# EAGLE library part CONN_HDMI_A (library GPLIB_CONN)
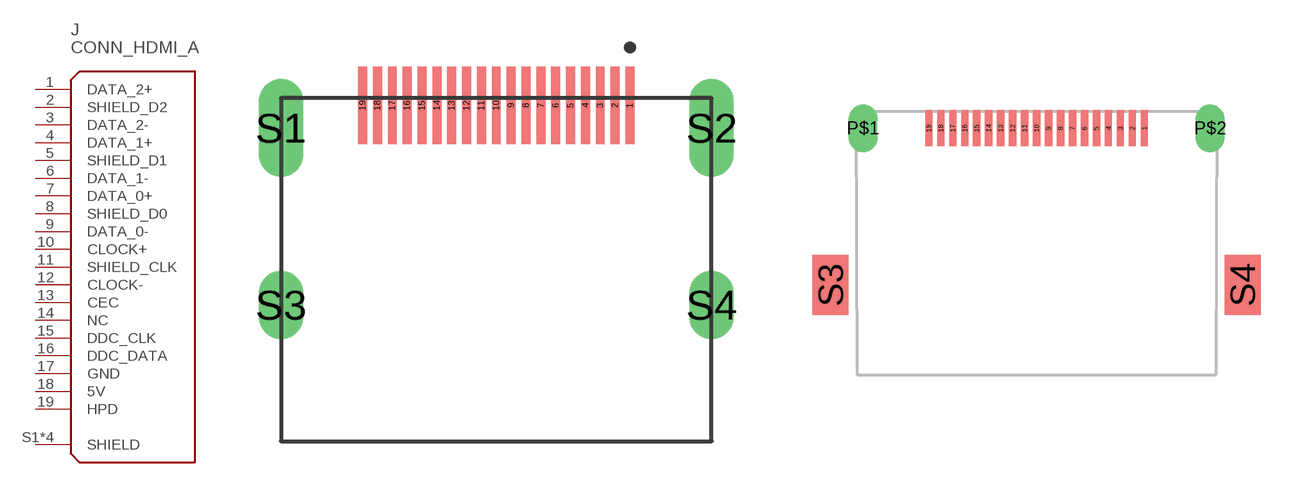
[diagram p24: symbol with the pads of CONN_HDMI_A_SMT_RA; footprints CONN_HDMI_A_SMT_RA, CONN_HDMI_A_SMT_RA_RECESSED]

Designator prefix J

## CONN_HDMI_A_HDMI-216  [CONN_HDMI_A_SMT_RA]
1  DATA_2+  pas
2  SHIELD_D2  pas
3  DATA_2-  pas
4  DATA_1+  pas
5  SHIELD_D1  pas
6  DATA_1-  pas
7  DATA_0+  pas
8  SHIELD_D0  pas
9  DATA_0-  pas
10  CLOCK+  pas
11  SHIELD_CLK  pas
12  CLOCK-  pas
13  CEC  pas
14  NC  pas
15  DDC_CLK  pas
16  DDC_DATA  pas
17  GND  pas
18  5V  pas
19  HPD  pas
S1  SHIELD  pas
S2  SHIELD  pas
S3  SHIELD  pas
S4  SHIELD  pas

## CONN_HDMI_A_HC-HDMI0019T-3  [CONN_HDMI_A_SMT_RA_RECESSED]
1  DATA_2+  pas
2  SHIELD_D2  pas
3  DATA_2-  pas
4  DATA_1+  pas
5  SHIELD_D1  pas
6  DATA_1-  pas
7  DATA_0+  pas
8  SHIELD_D0  pas
9  DATA_0-  pas
10  CLOCK+  pas
11  SHIELD_CLK  pas
12  CLOCK-  pas
13  CEC  pas
14  NC  pas
15  DDC_CLK  pas
16  DDC_DATA  pas
17  GND  pas
18  5V  pas
19  HPD  pas
P$1  SHIELD  pas
P$2  SHIELD  pas
S3  SHIELD  pas
S4  SHIELD  pas

## CONN_HDMI_A_MALE_TH_ST_920-867A2021Y10100  [CONN_HDMI_A_MALE_TH_ST]
1  DATA_2+  pas
2  SHIELD_D2  pas
3  DATA_2-  pas
4  DATA_1+  pas
5  SHIELD_D1  pas
6  DATA_1-  pas
7  DATA_0+  pas
8  SHIELD_D0  pas
9  DATA_0-  pas
10  CLOCK+  pas
11  SHIELD_CLK  pas
12  CLOCK-  pas
13  CEC  pas
14  NC  pas
15  DDC_CLK  pas
16  DDC_DATA  pas
17  GND  pas
18  5V  pas
19  HPD  pas
S1  SHIELD  pas
S2  SHIELD  pas

## CONN_HDMI_A_MALE_TH_ST_LONG_PAD_920-867A2021Y10100  [CONN_HDMI_A_MALE_TH_ST_SPECIAL]
Pads as for CONN_HDMI_A_MALE_TH_ST

## CONN_HDMI_A_HC-HDMI0019T-4  [CONN_HDMI_A_SMT_RA_HC-HDMI0019T-4]
1  DATA_2+  pas
2  SHIELD_D2  pas
3  DATA_2-  pas
4  DATA_1+  pas
5  SHIELD_D1  pas
6  DATA_1-  pas
7  DATA_0+  pas
8  SHIELD_D0  pas
9  DATA_0-  pas
10  CLOCK+  pas
11  SHIELD_CLK  pas
12  CLOCK-  pas
13  CEC  pas
14  NC  pas
15  DDC_CLK  pas
16  DDC_DATA  pas
17  GND  pas
18  5V  pas
19  HPD  pas
20  SHIELD  pas
21  SHIELD  pas
22  SHIELD  pas
23  SHIELD  pas

## Footprint CONN_HDMI_A_SMT_RA (pad centres in mm)
smd 0.3 x 2.6: 1 4.5,6.72; 2 4,6.72; 3 3.5,6.72; 4 3,6.72; 5 2.5,6.72; 6 2,6.72; 7 1.5,6.72; 8 1,6.72; 9 0.5,6.72; 10 0,6.72; 11 -0.5,6.72; 12 -1,6.72; 13 -1.5,6.72; 14 -2,6.72; 15 -2.5,6.72; 16 -3,6.72; 17 -3.5,6.72; 18 -4,6.72; 19 -4.5,6.72
drill 0.9 pad 1.5 slot 2.7 rotated 90: S1 -7.25,5.96; S2 7.25,5.96
drill 0.9 pad 1.5 slot 1.7 rotated 90: S3 -7.25,0; S4 7.25,0

## Footprint CONN_HDMI_A_SMT_RA_RECESSED (pad centres in mm)
smd 0.3 x 1.5: 1 4.5,10.3; 2 4,10.3; 3 3.5,10.3; 4 3,10.3; 5 2.5,10.3; 6 2,10.3; 7 1.5,10.3; 8 1,10.3; 9 0.5,10.3; 10 0,10.3; 11 -0.5,10.3; 12 -1,10.3; 13 -1.5,10.3; 14 -2,10.3; 15 -2.5,10.3; 16 -3,10.3; 17 -3.5,10.3; 18 -4,10.3; 19 -4.5,10.3
drill 0.7 slot 1.5 rotated 90: P$1 -7.25,10.3; P$2 7.25,10.3
smd 1.5 x 2.5: S3 -8.6,3.75; S4 8.6,3.75

## Footprint CONN_HDMI_A_MALE_TH_ST (pad centres in mm)
drill 0.55 pad 0.8: 1 4.5,-0.9; 2 4,0.9; 3 3.5,-0.9; 4 3,0.9; 5 2.5,-0.9; 6 2,0.9; 7 1.5,-0.9; 8 1,0.9; 9 0.5,-0.9; 10 0,0.9; 11 -0.5,-0.9; 12 -1,0.9; 13 -1.5,-0.9; 14 -2,0.9; 15 -2.5,-0.9; 16 -3,0.9; 17 -3.5,-0.9; 18 -4,0.9; 19 -4.5,-0.9
drill 1 pad 1.5 slot 3.9 rotated 90: S1 -6.75,0; S2 6.75,0

## Footprint CONN_HDMI_A_MALE_TH_ST_SPECIAL (pad centres in mm)
drill 0.45 pad 0.5 long: 1 4.5,-0.9; 2 4,0.9; 3 3.5,-0.9; 4 3,0.9; 5 2.5,-0.9; 6 2,0.9; 7 1.5,-0.9; 8 1,0.9; 9 0.5,-0.9; 10 0,0.9; 11 -0.5,-0.9; 12 -1,0.9; 13 -1.5,-0.9; 14 -2,0.9; 15 -2.5,-0.9; 16 -3,0.9; 17 -3.5,-0.9; 18 -4,0.9; 19 -4.5,-0.9
drill 1 pad 1.5 slot 3.9 rotated 90: S1 -6.75,0; S2 6.75,0

## Footprint CONN_HDMI_A_SMT_RA_HC-HDMI0019T-4 (pad centres in mm)
smd 0.3 x 2.1: 1 4.5,6.4; 2 4,6.4; 3 3.5,6.4; 4 3,6.4; 5 2.5,6.4; 6 2,6.4; 7 1.5,6.4; 8 1,6.4; 9 0.5,6.4; 10 0,6.4; 11 -0.5,6.4; 12 -1,6.4; 13 -1.5,6.4; 14 -2,6.4; 15 -2.5,6.4; 16 -3,6.4; 17 -3.5,6.4; 18 -4,6.4; 19 -4.5,6.4
smd 2.75 x 2.2: 20 -7.875,-0.6; 21 7.875,-0.6
smd 2.75 x 3: 22 -7.875,5.4; 23 7.875,5.4